# Altium footprint library aiskylab-14Connectors-01FFC-FPC.PcbLib: 118 footprints (part 8 of 8)
Each footprint in its own frame and in the unit in brackets; x right, y up, seen from the top. Pads: shape width x height; smd on the part's side, far side on the other; paste and mask are expansions set on the pad; w line width, h text height; cw(c..) or ccw(c..) is an arc to the next point about the centre after c.
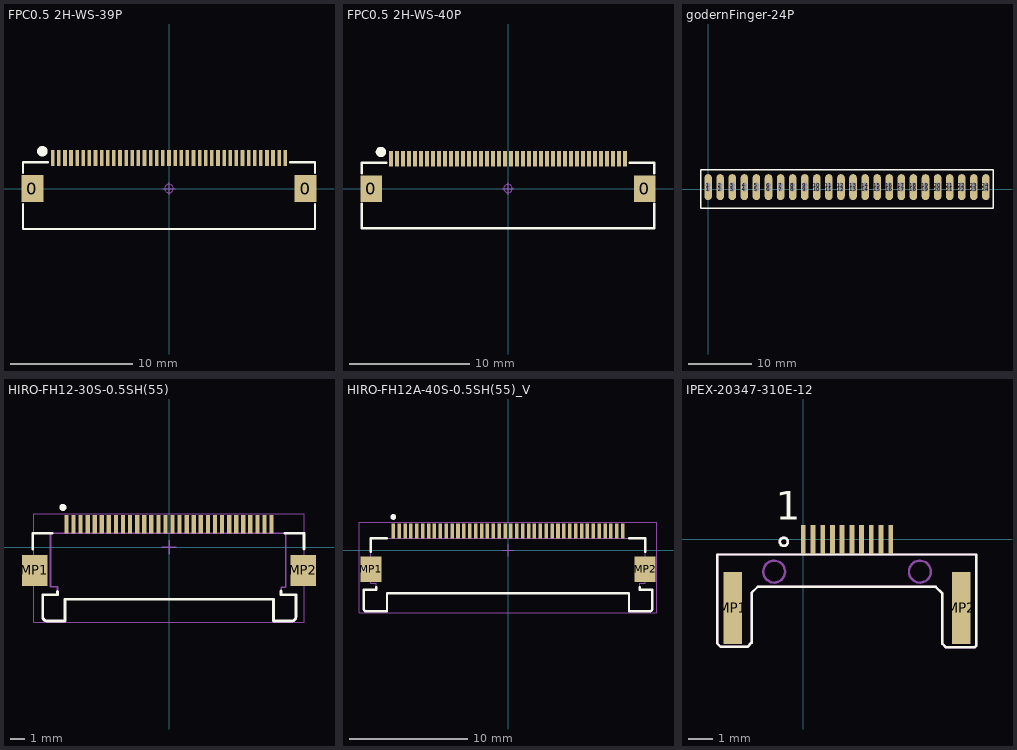
[diagram p7: the footprints below, top view; thin cyan lines are the x and y axes]

## FPC0.5 2H-WS-39P [mm] "长：23.7mm，宽：5.2mm，高：2mm"
pads (41):
  rect 1.8x2.2 smd: 0(-11.15,0) 0(11.15,0)
  rect 0.3x1.3 smd: 1(-9.5,2.497) 2(-9,2.497) 3(-8.5,2.497) 4(-8,2.497) 5(-7.5,2.497) 6(-7,2.497) 7(-6.5,2.497) 8(-6,2.497) 9(-5.5,2.497) 10(-5,2.497) 11(-4.5,2.497) 12(-4,2.497) 13(-3.5,2.497) 14(-3,2.497) 15(-2.5,2.497) 16(-2,2.497) 17(-1.5,2.497) 18(-1,2.497) 19(-0.5,2.497) 20(0,2.497) 21(0.5,2.497) 22(1,2.497) 23(1.5,2.497) 24(2,2.497) 25(2.5,2.497) 26(3,2.497) 27(3.5,2.497) 28(4,2.497) 29(4.5,2.497) 30(5,2.497) 31(5.5,2.497) 32(6,2.497) 33(6.5,2.497) 34(7,2.497) 35(7.5,2.497) 36(8,2.497) 37(8.5,2.497) 38(9,2.497) 39(9.5,2.497)
Top Overlay:
  circle w0.5: c-10.344,3.048 r0.18
  lines w0.2: -11.925,-1.27 -11.925,-3.302 11.925,-3.302 11.925,-1.27 ; -11.925,1.27 -11.925,2.159 -9.893,2.159 ; 9.893,2.159 11.925,2.159 11.925,1.27
Top Component Center:
  circle w0.05: c0,0 r0.35
  lines w0.05: -0.5,0 0.5,0 ; 0,-0.5 0,0.5
3D body: height 2, standoff -0.01, extent -11.85,-3.15 11.85,2.85

## FPC0.5 2H-WS-40P [mm] "长：24.2mm，宽：5.2mm，高：2mm"
pads (42):
  rect 1.8x2.2 smd: 0(-11.4,0) 0(11.4,0)
  rect 0.3x1.3 smd: 1(-9.75,2.497) 2(-9.25,2.497) 3(-8.75,2.497) 4(-8.25,2.497) 5(-7.75,2.497) 6(-7.25,2.497) 7(-6.75,2.497) 8(-6.25,2.497) 9(-5.75,2.497) 10(-5.25,2.497) 11(-4.75,2.497) 12(-4.25,2.497) 13(-3.75,2.497) 14(-3.25,2.497) 15(-2.75,2.497) 16(-2.25,2.497) 17(-1.75,2.497) 18(-1.25,2.497) 19(-0.75,2.497) 20(-0.25,2.497) 21(0.25,2.497) 22(0.75,2.497) 23(1.25,2.497) 24(1.75,2.497) 25(2.25,2.497) 26(2.75,2.497) 27(3.25,2.497) 28(3.75,2.497) 29(4.25,2.497) 30(4.75,2.497) 31(5.25,2.497) 32(5.75,2.497) 33(6.25,2.497) 34(6.75,2.497) 35(7.25,2.497) 36(7.75,2.497) 37(8.25,2.497) 38(8.75,2.497) 39(9.25,2.497) 40(9.75,2.497)
Top Overlay:
  circle w0.5: c-10.594,3.048 r0.18
  lines w0.2: -12.175,-1.27 -12.175,-3.302 12.175,-3.302 12.175,-1.27 ; -12.175,1.27 -12.175,2.159 -10.143,2.159 ; 10.143,2.159 12.175,2.159 12.175,1.27
Top Component Center:
  circle w0.05: c0,0 r0.35
  lines w0.05: -0.5,0 0.5,0 ; 0,-0.5 0,0.5
3D body: height 2, standoff -0.01, extent -12.1,-3.15 12.1,2.85

## godernFinger-24P [mm]
pads (48):
  oval 1.2x3.5 / inner oval 0.8x3.5 / far side oval 1.2x3.5 hole 0.8 square: 1(0,0)
  oval 1.2x3.5 / inner round 0 / far side oval 1.2x3.5 hole 0.8 square: 1(0,0.584) 2(1.9,0.584) 3(3.8,0.584) 4(5.7,0.584) 5(7.6,0.584) 6(9.5,0.584) 7(11.4,0.584) 8(13.3,0.584) 9(15.2,0.584) 10(17.1,0.584) 11(19,0.584) 12(20.9,0.584) 13(22.8,0.584) 14(24.7,0.584) 15(26.6,0.584) 16(28.5,0.584) 17(30.4,0.584) 18(32.3,0.584) 19(34.2,0.584) 20(36.1,0.584) 21(38,0.584) 22(39.9,0.584) 23(41.8,0.584) 24(43.7,0.584)
  oval 1.2x3.5 / inner oval 0.4x1 / far side oval 1.2x3.5 hole 0.8 square: 2(1.9,0) 3(3.8,0) 4(5.7,0) 5(7.6,0) 6(9.5,0) 7(11.4,0) 8(13.3,0) 9(15.2,0) 10(17.1,0) 11(19,0) 12(20.9,0) 13(22.8,0) 14(24.7,0) 15(26.6,0) 16(28.5,0) 17(30.4,0) 18(32.3,0) 19(34.2,0) 20(36.1,0) 21(38,0) 22(39.9,0) 23(41.8,0) 24(43.7,0)
Top Overlay:
  lines w0.203: -1.15,-3 -1.15,3 44.85,3 44.85,-3 -1.15,-3

## HIRO-FH12-30S-0.5SH(55) [mm]
pads (32):
  rect 0.3x1.3 smd paste-0.025: 1(-7.25,1.625) 2(-6.75,1.625) 3(-6.25,1.625) 4(-5.75,1.625) 5(-5.25,1.625) 6(-4.75,1.625) 7(-4.25,1.625) 8(-3.75,1.625) 9(-3.25,1.625) 10(-2.75,1.625) 11(-2.25,1.625) 12(-1.75,1.625) 13(-1.25,1.625) 14(-0.75,1.625) 15(-0.25,1.625) 16(0.25,1.625) 17(0.75,1.625) 18(1.25,1.625) 19(1.75,1.625) 20(2.25,1.625) 21(2.75,1.625) 22(3.25,1.625) 23(3.75,1.625) 24(4.25,1.625) 25(4.75,1.625) 26(5.25,1.625) 27(5.75,1.625) 28(6.25,1.625) 29(6.75,1.625) 30(7.25,1.625)
  rect 1.8x2.2 smd: MP1(-9.5,-1.625) MP2(9.5,-1.625)
Top Overlay:
  circle w0.25: c-7.5,2.825 r0.125
  lines w0.2: -9.625,-0.125 -9.625,1 -8.25,1 ; -7.875,-3.125 -7.875,-3.35 -8.925,-3.35 -8.925,-4.9 ccw(c-8.612,-4.888) -8.6,-5.2 -7.35,-5.2 -7.35,-3.67 7.375,-3.67 7.375,-5.2 8.6,-5.2 ccw(c8.65,-4.875) 8.975,-4.925 8.975,-3.35 7.925,-3.35 7.925,-3.075 ; 8.175,1 9.55,1 9.55,-0.125
Top Designator:
  text ".Designator" at -7.618,-0.195 h1.52
Top Assembly:
  lines w0.1: -8.35,1 8.25,1 8.25,-2.8 7.925,-2.8 7.925,-3.35 8.975,-3.35 8.975,-5 cw(c8.775,-5) 8.775,-5.2 7.375,-5.2 7.375,-3.67 -7.375,-3.67 -7.375,-5.2 -8.725,-5.2 cw(c-8.725,-5) -8.925,-5 -8.925,-3.35 -7.875,-3.35 -7.875,-2.8 -8.35,-2.8 -8.35,1
  text "1" at -7.696,2.779 h1.14
Top Component Center:
  lines w0.1: -0.5,0 0.5,0 ; 0,-0.5 0,0.5
Top Component Outline:
  lines w0.05: -9.55,-5.3 -9.55,2.375 9.55,2.375 9.55,-5.3 -9.55,-5.3
  lines w0.1: -0.5,0 0.5,0 ; 0,-0.5 0,0.5
Top 3D Body:
  lines w0.1: -8.925,-4.825 ccw(c-8.575,-4.85) -8.6,-5.2 -7.35,-5.2 -7.35,-3.67 7.4,-3.67 7.4,-5.2 8.775,-5.2 ccw(c8.775,-5) 8.975,-5 8.975,-3.35 7.925,-3.35 7.925,-2.8 8.25,-2.8 8.25,1 -8.375,1 -8.375,-2.8 -7.9,-2.8 -7.9,-3.35 -8.925,-3.35 -8.925,-4.825
3D body "FH12-30S-0.5SH(55)--3DModel-STEP-56544.STEP": height 2.05, standoff -0.06, extent -9.55,-4.6 9.55,1.8

## HIRO-FH12A-40S-0.5SH(55)_V [mm]
pads (42):
  rect 0.3x1.3 smd paste-0.025: 1(-9.75,1.625) 2(-9.25,1.625) 3(-8.75,1.625) 4(-8.25,1.625) 5(-7.75,1.625) 6(-7.25,1.625) 7(-6.75,1.625) 8(-6.25,1.625) 9(-5.75,1.625) 10(-5.25,1.625) 11(-4.75,1.625) 12(-4.25,1.625) 13(-3.75,1.625) 14(-3.25,1.625) 15(-2.75,1.625) 16(-2.25,1.625) 17(-1.75,1.625) 18(-1.25,1.625) 19(-0.75,1.625) 20(-0.25,1.625) 21(0.25,1.625) 22(0.75,1.625) 23(1.25,1.625) 24(1.75,1.625) 25(2.25,1.625) 26(2.75,1.625) 27(3.25,1.625) 28(3.75,1.625) 29(4.25,1.625) 30(4.75,1.625) 31(5.25,1.625) 32(5.75,1.625) 33(6.25,1.625) 34(6.75,1.625) 35(7.25,1.625) 36(7.75,1.625) 37(8.25,1.625) 38(8.75,1.625) 39(9.25,1.625) 40(9.75,1.625)
  rect 1.8x2.2 smd: MP1(-11.65,-1.625) MP2(11.65,-1.625)
Top Overlay:
  circle w0.25: c-9.75,2.825 r0.125
  lines w0.2: -11.675,-0.125 -11.675,1 -10.3,1 ; -11.2,-3.125 -11.2,-3.35 -12.25,-3.35 -12.25,-5 ccw(c-12.05,-5) -12.05,-5.2 -10.285,-5.2 -10.285,-3.67 10.285,-3.67 10.285,-5.2 12.05,-5.2 ccw(c12.05,-5) 12.25,-5 12.25,-3.35 11.2,-3.35 11.2,-3.125 ; 10.3,1 11.675,1 11.675,-0.125
Top Designator:
  text ".Designator" at -7.618,-0.195 h1.52
Top Assembly:
  lines w0.1: -12.25,-5 ccw(c-12.05,-5) -12.05,-5.2 -10.285,-5.2 -10.285,-3.67 10.285,-3.67 10.285,-5.2 12.05,-5.2 ccw(c12.05,-5) 12.25,-5 12.25,-3.35 11.2,-3.35 11.2,-2.8 11.675,-2.8 11.675,1 -11.675,1 -11.675,-2.8 -11.2,-2.8 -11.2,-3.35 -12.25,-3.35 -12.25,-5
  text "1" at -10.1,2.5 h1.14
Top Component Center:
  lines w0.1: -0.5,0 0.5,0 ; 0,-0.5 0,0.5
Top Component Outline:
  lines w0.05: -12.65,-5.3 12.65,-5.3 12.65,2.375 -12.65,2.375 -12.65,-5.3
  lines w0.1: -0.5,0 0.5,0 ; 0,-0.5 0,0.5
Top 3D Body:
  lines w0.1: -12.25,-5 ccw(c-12.05,-5) -12.05,-5.2 -10.285,-5.2 -10.285,-3.67 10.285,-3.67 10.285,-5.2 12.05,-5.2 ccw(c12.05,-5) 12.25,-5 12.25,-3.35 11.2,-3.35 11.2,-2.8 11.675,-2.8 11.675,1 -11.675,1 -11.675,-2.8 -11.2,-2.8 -11.2,-3.35 -12.25,-3.35 -12.25,-5
3D body: height 2.15, standoff 0, extent -12.25,-5.2 12.25,1.8

## IPEX-20347-310E-12 [mm] "0.4mm  10Pos"
pads (12):
  rect 0.2x1.2 smd: 1(0,0) 2(0.4,0) 3(0.8,0) 4(1.2,0) 5(1.6,0) 6(2,0) 7(2.4,0) 8(2.8,0) 9(3.2,0) 10(3.6,0)
  rect 0.75x2.95 smd: MP1(-2.9,-2.825) MP2(6.5,-2.825)
Top Overlay:
  circle w0.1: c-0.8,-0.1 r0.168
  lines w0.1: -3.55,-4.275 -3.55,-0.625 7.125,-0.625 7.125,-4.375 7.05,-4.45 5.875,-4.45 5.725,-4.3 5.725,-2.225 5.45,-1.95 -1.875,-1.95 -2.125,-2.2 -2.125,-4.25 -2.3,-4.425 -3.4,-4.425 -3.55,-4.275
  text "1" at -1.125,0.42 h2
Board:
  circle w0.1: c-1.2,-1.33 r0.45
  circle w0.1: c4.8,-1.33 r0.45
Top Assembly:
  circle w0.1: c-0.8,-0.1 r0.168
  lines w0.1: -3.55,-4.275 -3.55,-0.625 7.125,-0.625 7.125,-4.375 7.05,-4.45 5.875,-4.45 5.725,-4.3 5.725,-2.225 5.45,-1.95 -1.875,-1.95 -2.125,-2.2 -2.125,-4.25 -2.3,-4.425 -3.4,-4.425 -3.55,-4.275
3D body: height 0.8, standoff 0, extent -3.587,-4.471 7.138,-0.596
3D body: height 1, standoff 0.4, extent -3.575,-4.575 7.15,-0.7